# EAGLE library part MASTER_CHIP (library E&R_Modulos)
Plantilla base para PIC-TRAINER
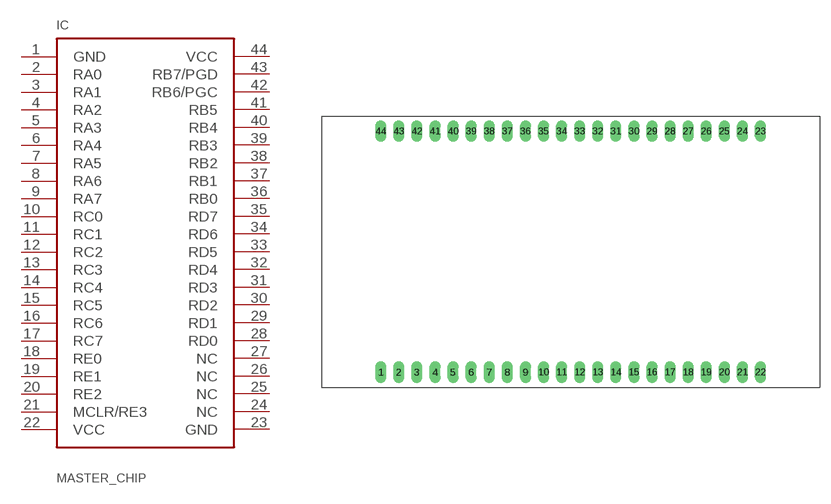
[diagram p1: symbol with the pads of MASTER_CHIP; footprint MASTER_CHIP]

Designator prefix IC

## MASTER_CHIP  [MASTER_CHIP]
1  GND
2  RA0
3  RA1
4  RA2
5  RA3
6  RA4
7  RA5
8  RA6
9  RA7
10  RC0
11  RC1
12  RC2
13  RC3
14  RC4
15  RC5
16  RC6
17  RC7
18  RE0
19  RE1
20  RE2
21  MCLR/RE3
22  VCC
23  GND
24  NC
25  NC
26  NC
27  NC
28  RD0
29  RD1
30  RD2
31  RD3
32  RD4
33  RD5
34  RD6
35  RD7
36  RB0
37  RB1
38  RB2
39  RB3
40  RB4
41  RB5
42  RB6/PGC
43  RB7/PGD
44  VCC

## Footprint MASTER_CHIP (pad centres in mm)
Plantilla base para PIC-TRAINER v2.0
drill 1.016 long: 1 -26.669,-16.912; 2 -24.129,-16.912; 3 -21.589,-16.912; 4 -19.049,-16.912; 5 -16.509,-16.912; 6 -13.969,-16.912; 7 -11.429,-16.912; 8 -8.889,-16.912; 9 -6.349,-16.912; 10 -3.809,-16.912; 11 -1.269,-16.912; 12 1.271,-16.912; 13 3.811,-16.912; 14 6.351,-16.912; 15 8.891,-16.912; 16 11.431,-16.912; 17 13.971,-16.912; 18 16.511,-16.912; 19 19.051,-16.912; 20 21.591,-16.912; 21 24.131,-16.912; 22 26.671,-16.912; 23 26.67,16.943; 24 24.13,16.943; 25 21.59,16.943; 26 19.05,16.943; 27 16.51,16.943; 28 13.97,16.943; 29 11.43,16.943; 30 8.89,16.943; 31 6.35,16.943; 32 3.81,16.943; 33 1.27,16.943; 34 -1.27,16.943; 35 -3.81,16.943; 36 -6.35,16.943; 37 -8.89,16.943; 38 -11.43,16.943; 39 -13.97,16.943; 40 -16.51,16.943; 41 -19.05,16.943; 42 -21.59,16.943; 43 -24.13,16.943; 44 -26.67,16.943